# Altium schematic symbol library EC12_Rotary_encoder.SchLib: 1 symbol
Pins are listed as number, name and electrical type; pins without a type are passive.

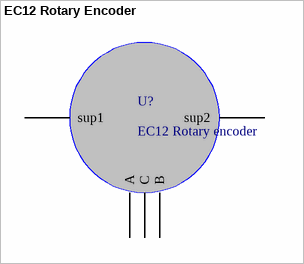
[diagram p0: symbol EC12 Rotary Encoder]

## EC12 Rotary Encoder
designator U?, comment EC12 Rotary encoder
footprint EC12 (Rotary Encoder)
pins: A, B, C, sup1, sup2